# Altium footprint library XCVR_XB3-24Z8UM-J.PcbLib: 1 footprints
Each footprint in its own frame and in the unit in brackets; x right, y up, seen from the top. Pads: shape width x height; smd on the part's side, far side on the other; paste and mask are expansions set on the pad; w line width, h text height; cw(c..) or ccw(c..) is an arc to the next point about the centre after c.
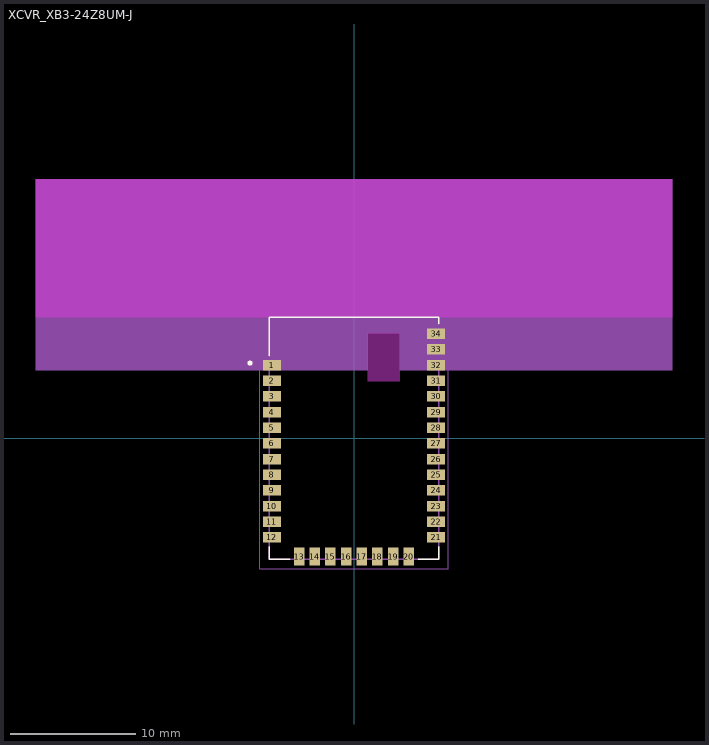
[diagram p0: the footprint, top view; thin cyan lines are the x and y axes]

## XCVR_XB3-24Z8UM-J [mil]
pads (34):
  rect 57x33 smd: 1(-258,230) 2(-258,180.8) 3(-258,131.6) 4(-258,82.4) 5(-258,33.2) 6(-258,-16) 7(-258,-65.2) 8(-258,-114.4) 9(-258,-163.6) 10(-258,-212.8) 11(-258,-262) 12(-258,-311.2) 21(258,-311.2) 22(258,-262) 23(258,-212.8) 24(258,-163.6) 25(258,-114.4) 26(258,-65.2) 27(258,-16) 28(258,33.2) 29(258,82.4) 30(258,131.6) 31(258,180.8) 32(258,230) 33(258,279.2) 34(258,329)
  rect 33x57 smd: 13(-172.5,-371.5) 14(-123.3,-371.5) 15(-74.1,-371.5) 16(-24.9,-371.5) 17(24.3,-371.5) 18(73.5,-371.5) 19(122.7,-371.5) 20(172.5,-371.5)
Top Overlay:
  circle w7.87: c-326.77,236.22 r3.94
  lines w5: -266.5,-341.73 -266.5,-380 -202.76,-380 ; -266.5,260.24 -266.5,380 266.5,380 266.5,359.45 ; 202.76,-380 266.5,-380 266.5,-341.73
Keep-Out Layer:
  region: 143.5,180 43.5,180 43.5,330 143.5,330
  region: 1000,380 -1000,380 -1000,814 1000,814
Mechanical 13:
  circle w7.87: c-326.77,236.22 r3.94
  lines w5: -266.5,-380 -266.5,380 266.5,380 266.5,-380 -266.5,-380
Mechanical 15:
  region: 1000,214 143.5,214 143.5,330 43.5,330 43.5,214 -1000,214 -1000,814 1000,814
  lines w1.97: -296.46,214 -296.46,-409.84 296.46,-409.84 296.46,214
Mechanical 16:
  region: 1000,380 -1000,380 -1000,814 1000,814
3D body "step_temp.STEP": height 97, standoff 0, extent -267,-380 267,380